# Altium footprint library LM2595.PcbLib: 1 footprints
Each footprint in its own frame and in the unit in brackets; x right, y up, seen from the top. Pads: shape width x height; smd on the part's side, far side on the other; paste and mask are expansions set on the pad; w line width, h text height; cw(c..) or ccw(c..) is an arc to the next point about the centre after c.
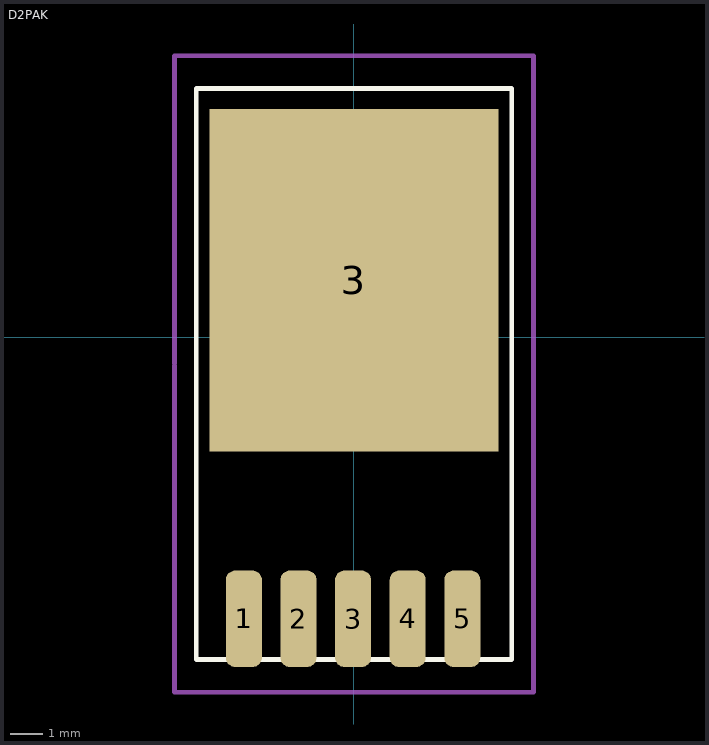
[diagram p0: the footprint, top view; thin cyan lines are the x and y axes]

## D2PAK [mm]
pads (7):
  rrect50% 1.12x3 smd: 1(-3.429,-8.763) 1(-3.429,-8.763) 2(-1.729,-8.763) 3(-0.029,-8.763) 4(1.671,-8.763) 5(3.371,-8.763)
  rect 9x10.66 smd: 3(0,1.778)
Top Overlay:
  lines w0.15: -4.911,-10.033 4.911,-10.033 4.911,7.747 -4.911,7.747 -4.911,-9.561 -4.911,-10.033
Mechanical 15:
  lines w0.1: -1.27,0 0,0 ; 0,-1.27 0,0 ; 0,1.27 0,0 ; 1.27,0 0,0
  lines w0.15: -5.588,-0.889 -5.588,-11.049 0,-11.049 5.588,-11.049 5.588,8.763 0,8.763 -5.588,8.763 -5.588,-0.826
3D body "TO263-5-1.stp": height 4.22, standoff 0, extent -4.911,-9.561 4.911,5.041